# Altium footprint library TDFN-8.PcbLib: 1 footprints
Each footprint in its own frame and in the unit in brackets; x right, y up, seen from the top. Pads: shape width x height; smd on the part's side, far side on the other; paste and mask are expansions set on the pad; w line width, h text height; cw(c..) or ccw(c..) is an arc to the next point about the centre after c.
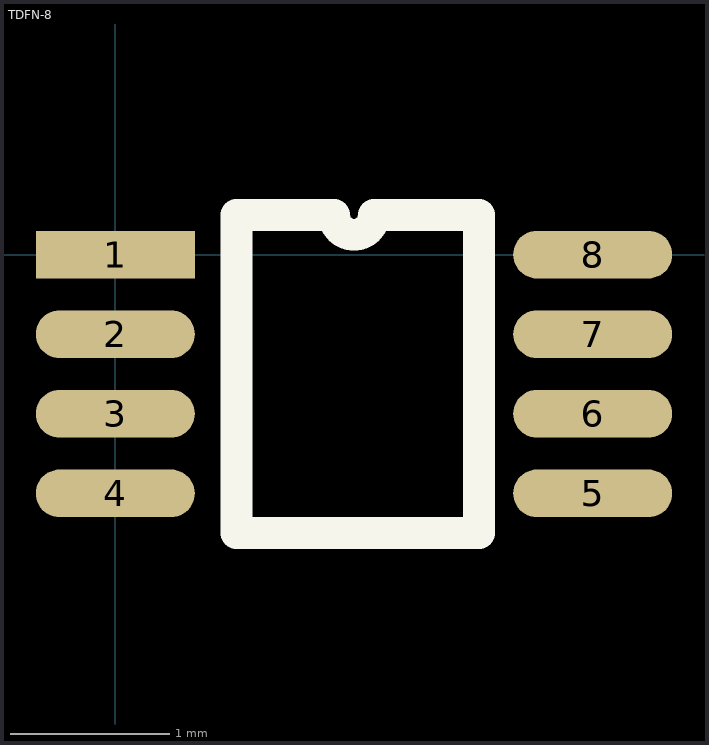
[diagram p0: the footprint, top view; thin cyan lines are the x and y axes]

## TDFN-8 [mm]
pads (8):
  rect 1x0.3 smd: 1(0,0)
  oval 1x0.3 smd: 2(0,-0.5) 3(0,-1) 4(0,-1.5) 5(3,-1.5) 6(3,-1) 7(3,-0.5) 8(3,0)
Top Overlay:
  lines w0.2: 0.762,-1.75 0.762,0.25 1.375,0.25 ccw(c1.5,0.25) 1.625,0.25 2.286,0.25 2.286,-1.75 0.762,-1.75
3D body: height 0.81, standoff 0, extent 0,-1.905 3.048,0.381